# EAGLE library part TPIC2810 (library ti)
TPIC2810 8-BIT LED DRIVER WITH I2C INTERFACE
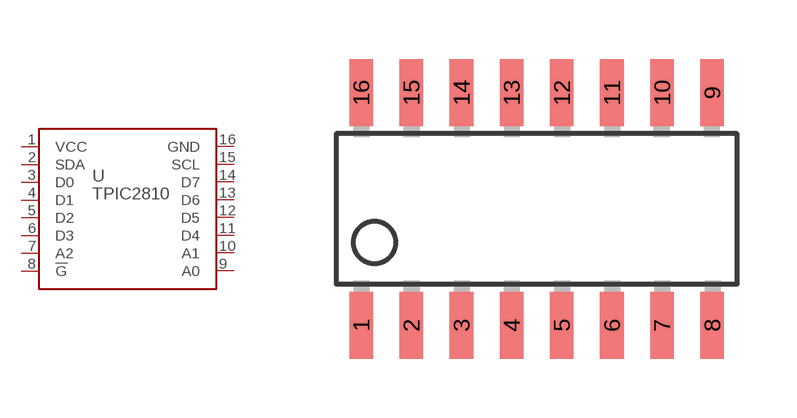
[diagram p4: symbol with the pads of D16; footprint D16]

Designator prefix U

## TPIC2810  [D16]
1  VCC
2  SDA
3  D0
4  D1
5  D2
6  D3
7  A2
8  !G
9  A0
10  A1
11  D4
12  D5
13  D6
14  D7
15  SCL
16  GND

## Footprint D16 (pad centres in mm)
*** TI: D *** JEDEC: R-PDSO-G16 *** 16 PINS ***
smd 0.6 x 1.7: 1 -4.445,-2.945; 2 -3.175,-2.945; 3 -1.905,-2.945; 4 -0.635,-2.945; 5 0.635,-2.945; 6 1.905,-2.945; 7 3.175,-2.945; 8 4.445,-2.945; 9 4.445,2.945; 10 3.175,2.945; 11 1.905,2.945; 12 0.635,2.945; 13 -0.635,2.945; 14 -1.905,2.945; 15 -3.175,2.945; 16 -4.445,2.945